# Altium footprint library EC-Fuse.PcbLib: 1 footprints
Each footprint in its own frame and in the unit in brackets; x right, y up, seen from the top. Pads: shape width x height; smd on the part's side, far side on the other; paste and mask are expansions set on the pad; w line width, h text height; cw(c..) or ccw(c..) is an arc to the next point about the centre after c.
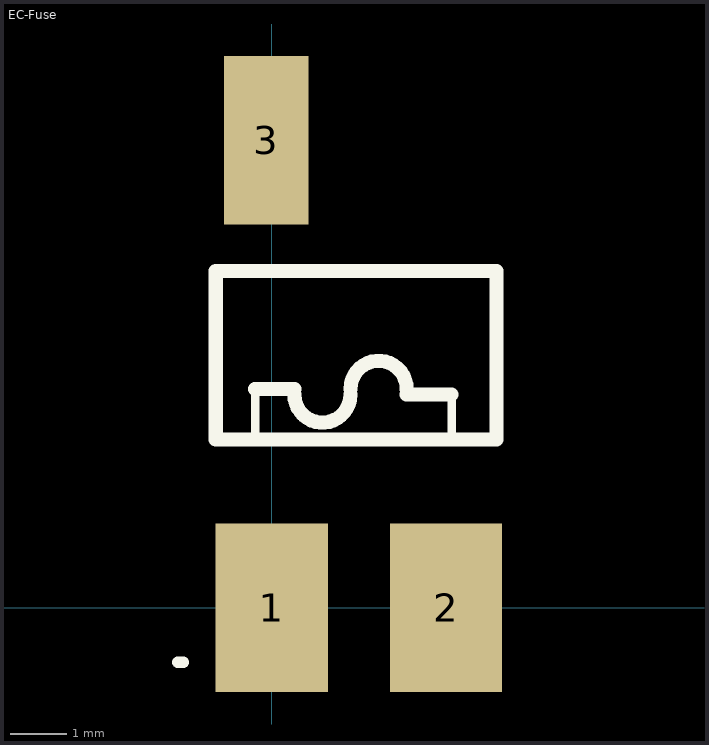
[diagram p0: the footprint, top view; thin cyan lines are the x and y axes]

## EC-Fuse [mm]
pads (3):
  rect 2x3 smd: 1(0,0) 2(3.1,0)
  rect 1.5x3 smd: 3(-0.102,8.331)
Top Overlay:
  lines w0.15: -0.3,3.1 -0.3,3.8 ; 3.2,3.1 3.2,3.8
  lines w0.2: -1.676,-0.965 -1.575,-0.965
  lines w0.25: -0.3,3.9 0.4,3.9 ; 0.4,3.8 ccw(c0.9,3.8) 1.4,3.8 ; 1.4,3.9 cw(c1.9,3.9) 2.4,3.9 ; 2.4,3.8 3.2,3.8 ; -1,3 -1,6 4,6 4,3 -1,3
3D body: height 1.75, standoff 0, extent -0.999,3.001 3.999,5.999